# EAGLE library part CS8405A (library TEABOX-LIB)
Cirrus S/PDIF Encoder
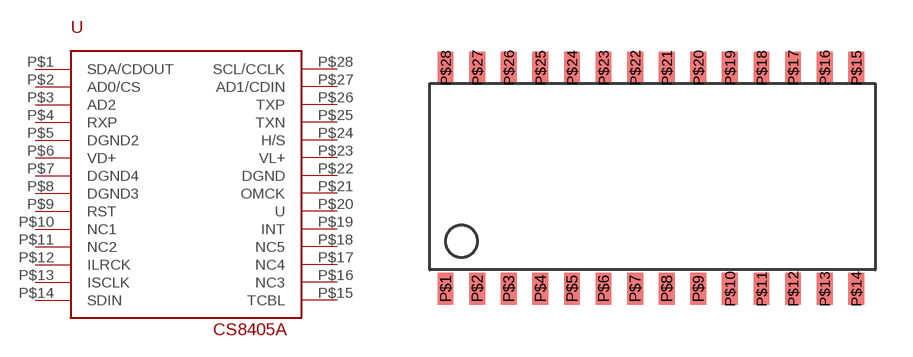
[diagram p4: symbol with the pads of 28L-SOIC; footprint 28L-SOIC]

Designator prefix U

## CS8405A  [28L-SOIC]
P$1  SDA/CDOUT
P$2  AD0/CS  in
P$3  AD2  in
P$4  RXP  in
P$5  DGND2  pwr
P$6  VD+  pwr
P$7  DGND4  pwr
P$8  DGND3  pwr
P$9  RST  in
P$10  NC1  nc
P$11  NC2  nc
P$12  ILRCK
P$13  ISCLK
P$14  SDIN  in
P$15  TCBL
P$16  NC3  nc
P$17  NC4  nc
P$18  NC5  nc
P$19  INT  out
P$20  U
P$21  OMCK  in
P$22  DGND  pwr
P$23  VL+  pwr
P$24  H/S  in
P$25  TXN  out
P$26  TXP  out
P$27  AD1/CDIN  in
P$28  SCL/CCLK  in

## Footprint 28L-SOIC (pad centres in mm)
28L-SOIC part, designed for the CS8405A chip, 300 mil body
smd 0.635 x 1.27: P$1 0.635,-8.255; P$2 1.905,-8.255; P$3 3.175,-8.255; P$4 4.445,-8.255; P$5 5.715,-8.255; P$6 6.985,-8.255; P$7 8.255,-8.255; P$8 9.525,-8.255; P$9 10.795,-8.255; P$10 12.065,-8.255; P$11 13.335,-8.255; P$12 14.605,-8.255; P$13 15.875,-8.255; P$14 17.145,-8.255; P$15 17.145,0.635; P$16 15.875,0.635; P$17 14.605,0.635; P$18 13.335,0.635; P$19 12.065,0.635; P$20 10.795,0.635; P$21 9.525,0.635; P$22 8.255,0.635; P$23 6.985,0.635; P$24 5.715,0.635; P$25 4.445,0.635; P$26 3.175,0.635; P$27 1.905,0.635; P$28 0.635,0.635